# Altium schematic symbol library 120VAC-5VDC.SchLib: 1 symbol
Pins are listed as number, name and electrical type; pins without a type are passive.

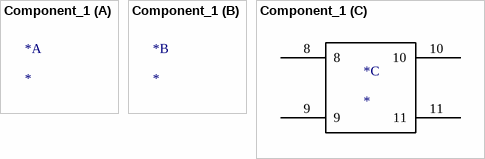
[diagram p0: symbol Component_1]

## Component_1
designator *
part C pins: 8, 9, 10, 11